# Altium footprint library Mini-Circuits.PcbLib: 45 footprints (part 2 of 3)
Each footprint in its own frame and in the unit in brackets; x right, y up, seen from the top. Pads: shape width x height; smd on the part's side, far side on the other; paste and mask are expansions set on the pad; w line width, h text height; cw(c..) or ccw(c..) is an arc to the next point about the centre after c.
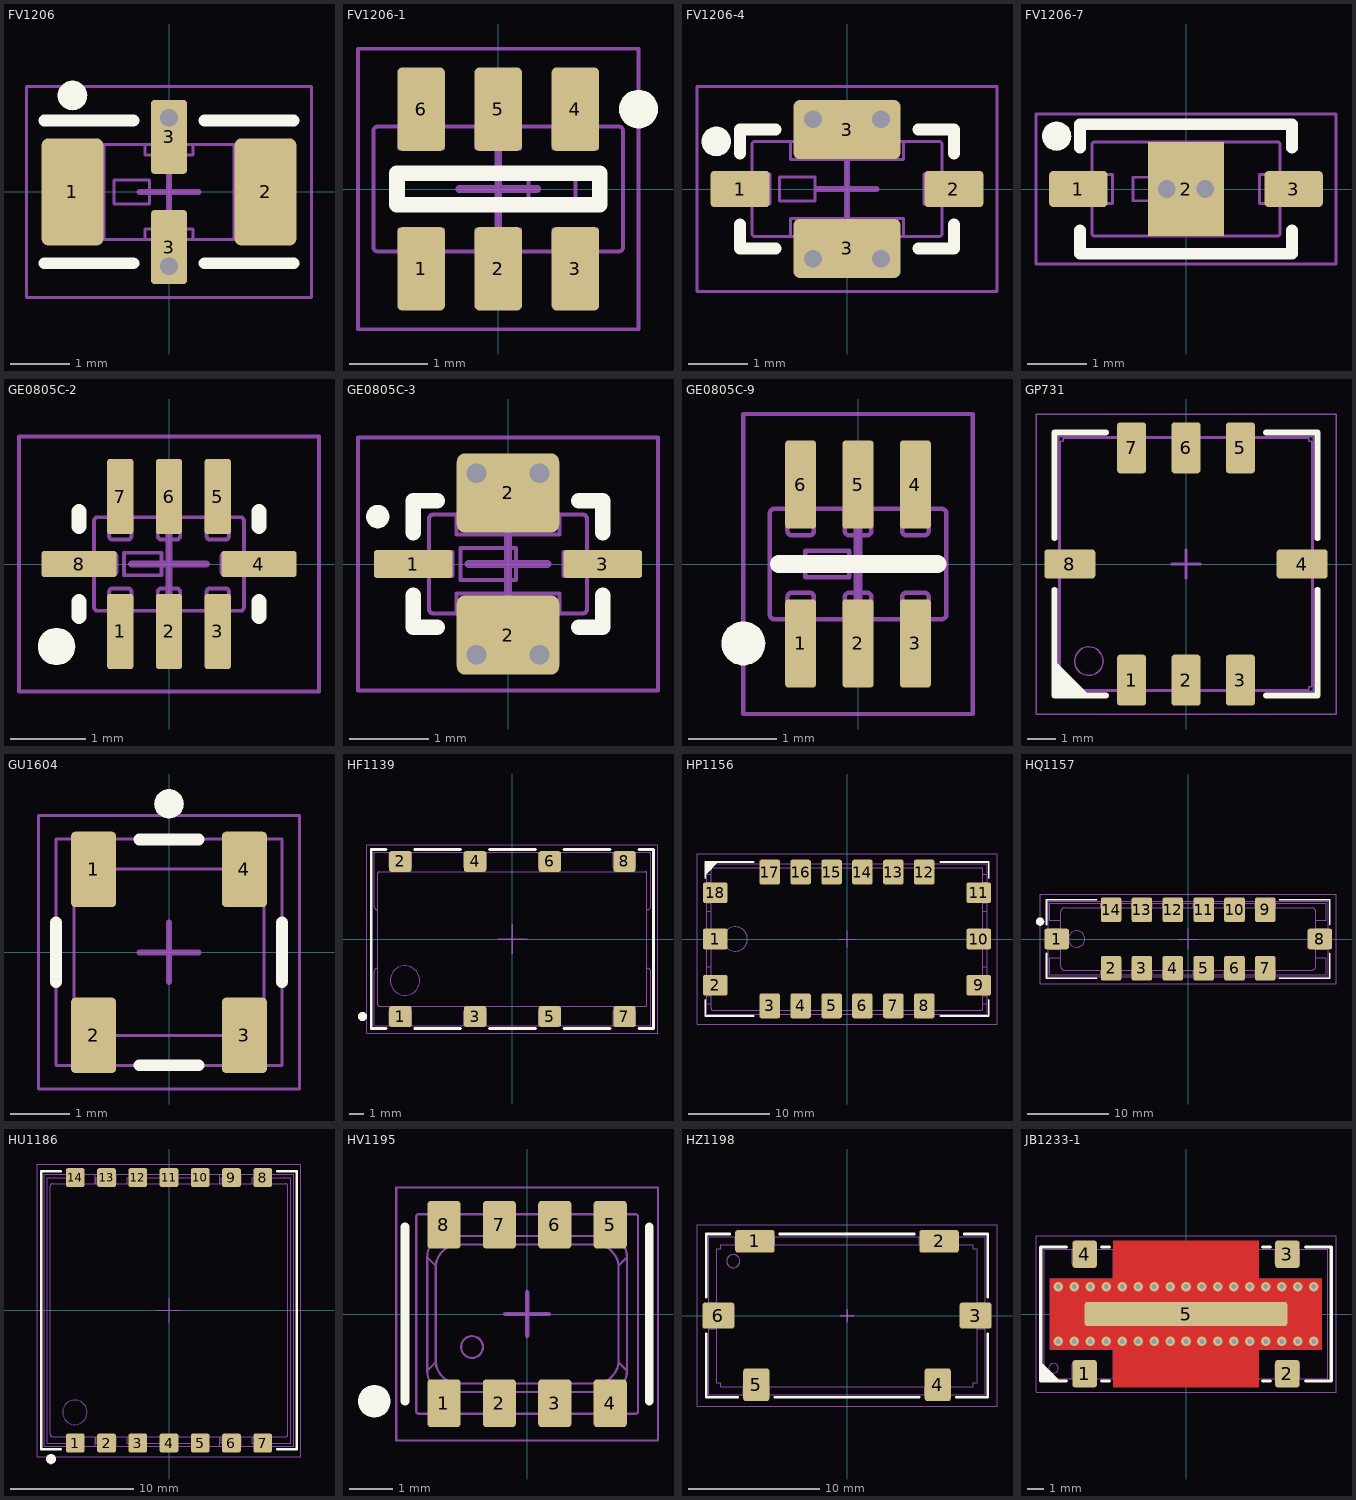
[diagram p1: the footprints below, top view; thin cyan lines are the x and y axes]

## FV1206 [mm] "Mini-Circuits FV1206 package, 3.20x1.60mm, 4-Leads"
height 0.94
pads (5):
  rrect20% 1.04x1.8 smd: 1(-1.625,0) 2(1.625,0)
  rrect20% 0.61x1.245 smd: 3(0,-0.927) 3(0,0.927)
  round 0.5 on Top Overlay: ""(-1.625,1.625)
via 0,1.25 diameter 0.6 hole 0.3
via 0,-1.25 diameter 0.6 hole 0.3
Top Overlay:
  lines w0.2: -2.1,-1.2 -0.6,-1.2 ; -2.1,1.2 -0.6,1.2 ; 0.6,-1.2 2.1,-1.2 ; 0.6,1.2 2.1,1.2
Mechanical 1:
  lines w0.05: -1.09,-0.8 -1.09,0.8 ; -0.405,-0.8 -0.405,-0.62 0.405,-0.62 0.405,-0.8 ; -0.405,0.8 -0.405,0.62 0.405,0.62 0.405,0.8 ; 1.09,-0.8 1.09,0.8 ; -1.6,-0.75 ccw(c-1.55,-0.75) -1.55,-0.8 1.55,-0.8 ccw(c1.55,-0.75) 1.6,-0.75 1.6,0.75 ccw(c1.55,0.75) 1.55,0.8 -1.55,0.8 ccw(c-1.55,0.75) -1.6,0.75 -1.6,-0.75 ; -0.925,-0.2 -0.925,0.2 -0.325,0.2 -0.325,-0.2 -0.925,-0.2
Mechanical 15:
  lines w0.05: -2.4,-1.775 -2.4,1.775 2.4,1.775 2.4,-1.775 -2.4,-1.775
  lines w0.1: -0.5,0 0.5,0 ; 0,-0.5 0,0.5
3D body "Filter_Mini-Circuits_FV1206.step": height 0.94, standoff 0, extent -1.6,-0.8 1.6,0.8

## FV1206-1 [mm] "Mini-Circuits FV1206-1 Package, 3.20x1.60mm, 6-Leads"
height 0.89
pads (7):
  rrect20% 0.61x1.07 smd: 1(-0.99,-1.025) 2(0,-1.025) 3(0.99,-1.025) 4(0.99,1.025) 5(0,1.025) 6(-0.99,1.025)
  round 0.5 on Top Overlay: ""(1.8,1.025)
Top Overlay:
  lines w0.2: -1.3,-0.2 -1.3,0.2 1.3,0.2 1.3,-0.2 -1.3,-0.2
Mechanical 1:
  lines w0.05: -1.27,-0.8 -1.27,-0.52 -0.71,-0.52 -0.71,-0.8 ; -1.27,0.8 -1.27,0.52 -0.71,0.52 -0.71,0.8 ; -0.28,-0.8 -0.28,-0.52 0.28,-0.52 0.28,-0.8 ; -0.28,0.8 -0.28,0.52 0.28,0.52 0.28,0.8 ; 0.71,-0.8 0.71,-0.52 1.27,-0.52 1.27,-0.8 ; 0.71,0.8 0.71,0.52 1.27,0.52 1.27,0.8 ; -1.6,-0.75 ccw(c-1.55,-0.75) -1.55,-0.8 1.55,-0.8 ccw(c1.55,-0.75) 1.6,-0.75 1.6,0.75 ccw(c1.55,0.75) 1.55,0.8 -1.55,0.8 ccw(c-1.55,0.75) -1.6,0.75 -1.6,-0.75 ; 0.39,-0.2 0.99,-0.2 0.99,0.2 0.39,0.2 0.39,-0.2
Mechanical 15:
  lines w0.05: -1.8,-1.8 -1.8,1.8 1.8,1.8 1.8,-1.8 -1.8,-1.8
  lines w0.1: -0.5,0 0.5,0 ; 0,-0.5 0,0.5
3D body "Filter_Mini-Circuits_FV1206-1.step": height 0.89, standoff 0, extent -1.6,-0.8 1.6,0.8

## FV1206-4 [mm] "Mini-Circuits FV1206-4 package, 3.20x1.60mm, 4-Leads"
height 0.89
pads (5):
  rrect20% 0.99x0.61 smd: 1(-1.8,0) 2(1.8,0)
  rrect20% 1.8x0.99 smd: 3(0,-1) 3(0,1)
  round 0.5 on Top Overlay: ""(-2.2,0.8)
via -0.575,1.175 diameter 0.6 hole 0.3
via 0.575,1.175 diameter 0.6 hole 0.3
via -0.575,-1.175 diameter 0.6 hole 0.3
via 0.575,-1.175 diameter 0.6 hole 0.3
Top Overlay:
  lines w0.2: -1.8,-0.6 -1.8,-1 -1.2,-1 ; -1.8,0.6 -1.8,1 -1.2,1 ; 1.2,-1 1.8,-1 1.8,-0.6 ; 1.2,1 1.8,1 1.8,0.6
Mechanical 1:
  lines w0.05: -1.6,-0.255 -1.3,-0.255 -1.3,0.255 -1.6,0.255 ; -0.955,-0.8 -0.955,-0.5 0.955,-0.5 0.955,-0.8 ; -0.955,0.8 -0.955,0.5 0.955,0.5 0.955,0.8 ; 1.6,-0.255 1.3,-0.255 1.3,0.255 1.6,0.255 ; -1.6,-0.75 ccw(c-1.55,-0.75) -1.55,-0.8 1.55,-0.8 ccw(c1.55,-0.75) 1.6,-0.75 1.6,0.75 ccw(c1.55,0.75) 1.55,0.8 -1.55,0.8 ccw(c-1.55,0.75) -1.6,0.75 -1.6,-0.75 ; -1.14,-0.2 -1.14,0.2 -0.54,0.2 -0.54,-0.2 -1.14,-0.2
Mechanical 15:
  lines w0.05: -2.525,-1.725 2.525,-1.725 2.525,1.725 -2.525,1.725 -2.525,-1.725
  lines w0.1: -0.5,0 0.5,0 ; 0,-0.5 0,0.5
3D body "Filter_Mini-Circuits_FV1206-4.step": height 0.94, standoff 0, extent -1.6,-0.8 1.6,0.8

## FV1206-7 [mm] "Mini-Circuits FV1206-7 package, 3.20x1.60mm, 3-Leads"
height 0.89
pads (4):
  rrect20% 0.99x0.61 smd: 1(-1.83,0) 3(1.83,0)
  rect 1.3x1.6 smd: 2(0,0)
  round 0.5 on Top Overlay: ""(-2.2,0.9)
via -0.325,0 diameter 0.6 hole 0.3
via 0.325,0 diameter 0.6 hole 0.3
Top Overlay:
  lines w0.2: -1.8,-0.7 -1.8,-1.1 1.8,-1.1 1.8,-0.7 ; -1.8,0.7 -1.8,1.1 1.8,1.1 1.8,0.7
Mechanical 1:
  lines w0.05: -1.6,-0.25 -1.25,-0.25 -1.25,0.25 -1.6,0.25 ; 1.6,-0.25 1.25,-0.25 1.25,0.25 1.6,0.25 ; -1.6,-0.75 ccw(c-1.55,-0.75) -1.55,-0.8 1.55,-0.8 ccw(c1.55,-0.75) 1.6,-0.75 1.6,0.75 ccw(c1.55,0.75) 1.55,0.8 -1.55,0.8 ccw(c-1.55,0.75) -1.6,0.75 -1.6,-0.75 ; -0.9,-0.2 -0.9,0.2 -0.3,0.2 -0.3,-0.2 -0.9,-0.2
Mechanical 15:
  lines w0.05: -2.55,-1.275 2.55,-1.275 2.55,1.275 -2.55,1.275 -2.55,-1.275
  lines w0.1: -0.5,0 0.5,0 ; 0,-0.5 0,0.5
3D body "Filter_Mini-Circuits_FV1206-7.step": height 1.3, standoff 0, extent -1.6,-0.8 1.6,0.8

## GE0805C-2 [mm] "Mini-Circuits GE0805C-2 Case, 2.00x1.25mm, 8-Leads"
height 0.95
pads (9):
  rrect20% 0.35x1 smd: 1(-0.65,-0.9) 2(0,-0.9) 3(0.65,-0.9) 5(0.65,0.9) 6(0,0.9) 7(-0.65,0.9)
  rrect20% 1x0.35 smd: 4(1.2,0) 8(-1.2,0)
  round 0.5 on Top Overlay: ""(-1.5,-1.1)
Top Overlay:
  lines w0.2: -1.2,-0.7 -1.2,-0.5 ; -1.2,0.5 -1.2,0.7 ; 1.2,-0.7 1.2,-0.5 ; 1.2,0.5 1.2,0.7
Mechanical 1:
  lines w0.05: -1,-0.15 -0.75,-0.15 ccw(c-0.75,-0.1) -0.7,-0.1 -0.7,0.1 ccw(c-0.75,0.1) -0.75,0.15 -1,0.15 ; -0.8,-0.625 -0.8,-0.375 cw(c-0.75,-0.375) -0.75,-0.325 -0.55,-0.325 cw(c-0.55,-0.375) -0.5,-0.375 -0.5,-0.625 ; -0.8,0.625 -0.8,0.375 ccw(c-0.75,0.375) -0.75,0.325 -0.55,0.325 ccw(c-0.55,0.375) -0.5,0.375 -0.5,0.625 ; -0.15,-0.625 -0.15,-0.375 cw(c-0.1,-0.375) -0.1,-0.325 0.1,-0.325 cw(c0.1,-0.375) 0.15,-0.375 0.15,-0.625 ; -0.15,0.625 -0.15,0.375 ccw(c-0.1,0.375) -0.1,0.325 0.1,0.325 ccw(c0.1,0.375) 0.15,0.375 0.15,0.625 ; 0.5,-0.625 0.5,-0.375 cw(c0.55,-0.375) 0.55,-0.325 0.75,-0.325 cw(c0.75,-0.375) 0.8,-0.375 0.8,-0.625 ; 0.5,0.625 0.5,0.375 ccw(c0.55,0.375) 0.55,0.325 0.75,0.325 ccw(c0.75,0.375) 0.8,0.375 0.8,0.625 ; 1,-0.15 0.75,-0.15 cw(c0.75,-0.1) 0.7,-0.1 0.7,0.1 cw(c0.75,0.1) 0.75,0.15 1,0.15 ; -1,-0.575 ccw(c-0.95,-0.575) -0.95,-0.625 0.95,-0.625 ccw(c0.95,-0.575) 1,-0.575 1,0.575 ccw(c0.95,0.575) 0.95,0.625 -0.95,0.625 ccw(c-0.95,0.575) -1,0.575 -1,-0.575 ; -0.6,-0.15 -0.1,-0.15 -0.1,0.15 -0.6,0.15 -0.6,-0.15
Mechanical 15:
  lines w0.05: -2,-1.7 2,-1.7 2,1.7 -2,1.7 -2,-1.7
  lines w0.1: -0.5,0 0.5,0 ; 0,-0.5 0,0.5
3D body "Mini-Circuits_GE0805C-2.STEP": height 0.95, standoff 0, extent -1,-0.625 1,0.625

## GE0805C-3 [mm] "Mini-Circuits GE0805C-3 Case, 2.00x1.25mm, 4-Leads"
pads (5):
  rrect20% 1x0.35 smd: 1(-1.2,0) 3(1.2,0)
  rrect20% 1.3x1 smd: 2(0,-0.9) 2(0,0.9)
  round 0.3 on Top Overlay: ""(-1.65,0.6)
via -0.4,1.15 diameter 0.5 hole 0.25
via 0.4,1.15 diameter 0.5 hole 0.25
via -0.4,-1.15 diameter 0.5 hole 0.25
via 0.4,-1.15 diameter 0.5 hole 0.25
Top Overlay:
  lines w0.2: -1.2,-0.4 -1.2,-0.8 -0.9,-0.8 ; -1.2,0.4 -1.2,0.8 -0.9,0.8 ; 0.9,-0.8 1.2,-0.8 1.2,-0.4 ; 0.9,0.8 1.2,0.8 1.2,0.4
Mechanical 1:
  lines w0.05: -1,-0.15 -0.7,-0.15 -0.7,0.15 -1,0.15 ; -0.65,-0.625 -0.65,-0.375 0.65,-0.375 0.65,-0.625 ; -0.65,0.625 -0.65,0.375 0.65,0.375 0.65,0.625 ; 1,-0.15 0.7,-0.15 0.7,0.15 1,0.15 ; -1,-0.575 ccw(c-0.95,-0.575) -0.95,-0.625 0.95,-0.625 ccw(c0.95,-0.575) 1,-0.575 1,0.575 ccw(c0.95,0.575) 0.95,0.625 -0.95,0.625 ccw(c-0.95,0.575) -1,0.575 -1,-0.575 ; -0.6,-0.2 -0.6,0.2 0.1,0.2 0.1,-0.2 -0.6,-0.2
Mechanical 15:
  lines w0.05: -1.9,-1.6 -1.9,1.6 1.9,1.6 1.9,-1.6 -1.9,-1.6
  lines w0.1: -0.5,0 0.5,0 ; 0,-0.5 0,0.5
3D body "Mini-Circuits_GE0805C-3.STEP": height 0.95, standoff 0, extent -1,-0.625 1,0.625

## GE0805C-9 [mm] "Mini-Circuits GE0805C-9 Case, 2.00x1.25mm, 6-Leads"
height 0.95
pads (7):
  rrect20% 0.35x1 smd: 1(-0.65,-0.9) 2(0,-0.9) 3(0.65,-0.9) 4(0.65,0.9) 5(0,0.9) 6(-0.65,0.9)
  round 0.5 on Top Overlay: ""(-1.3,-0.9)
Top Overlay:
  lines w0.2: -0.9,0 0.9,0
Mechanical 1:
  lines w0.05: -0.8,-0.625 -0.8,-0.375 cw(c-0.75,-0.375) -0.75,-0.325 -0.55,-0.325 cw(c-0.55,-0.375) -0.5,-0.375 -0.5,-0.625 ; -0.8,0.625 -0.8,0.375 ccw(c-0.75,0.375) -0.75,0.325 -0.55,0.325 ccw(c-0.55,0.375) -0.5,0.375 -0.5,0.625 ; -0.15,-0.625 -0.15,-0.375 cw(c-0.1,-0.375) -0.1,-0.325 0.1,-0.325 cw(c0.1,-0.375) 0.15,-0.375 0.15,-0.625 ; -0.15,0.625 -0.15,0.375 ccw(c-0.1,0.375) -0.1,0.325 0.1,0.325 ccw(c0.1,0.375) 0.15,0.375 0.15,0.625 ; 0.5,-0.625 0.5,-0.375 cw(c0.55,-0.375) 0.55,-0.325 0.75,-0.325 cw(c0.75,-0.375) 0.8,-0.375 0.8,-0.625 ; 0.5,0.625 0.5,0.375 ccw(c0.55,0.375) 0.55,0.325 0.75,0.325 ccw(c0.75,0.375) 0.8,0.375 0.8,0.625 ; -1,-0.575 ccw(c-0.95,-0.575) -0.95,-0.625 0.95,-0.625 ccw(c0.95,-0.575) 1,-0.575 1,0.575 ccw(c0.95,0.575) 0.95,0.625 -0.95,0.625 ccw(c-0.95,0.575) -1,0.575 -1,-0.575 ; -0.6,-0.15 -0.1,-0.15 -0.1,0.15 -0.6,0.15 -0.6,-0.15
Mechanical 15:
  lines w0.05: -1.3,-1.7 -1.3,1.7 1.3,1.7 1.3,-1.7 -1.3,-1.7
  lines w0.1: -0.5,0 0.5,0 ; 0,-0.5 0,0.5
3D body "Mini-Circuits_GE0805C-9.STEP": height 0.95, standoff 0, extent -1,-0.625 1,0.625

## GP731 [mil] "Mini-Circuts GP731 Package, 8.89x8.89mm, 8 Leads"
height 100
pads (8):
  rrect20% 40x70 smd: 1(-75,-160) 2(0,-160) 3(75,-160) 5(75,160) 6(0,160) 7(-75,160)
  rrect20% 70x40 smd: 4(160,0) 8(-160,0)
Top Overlay:
  region: -181.1,-137.8 -137.8,-181.1 -181.1,-181.1
  lines w7.87: -181.1,-137.8 -137.8,-181.1 ; -181.1,-35.43 -181.1,-181.1 -110.24,-181.1 ; -181.1,35.43 -181.1,181.1 -110.24,181.1 ; 110.24,-181.1 181.1,-181.1 181.1,-35.43 ; 110.24,181.1 181.1,181.1 181.1,35.43
Mechanical 1:
  circle w1.97: c-133.86,-133.86 r19.68
  lines w1.97: -173.23,-20.08 -175,-20.08 ; -173.23,-18.13 -175,-20.08 ; -173.23,18.13 -175,20.08 ; -173.23,20.08 -175,20.08 ; -95.28,-173.23 -95.28,-175 ; -95.28,173.23 -95.28,175 ; -93.33,-173.23 -95.28,-175 ; -93.33,173.23 -95.28,175 ; -57.06,-173.23 -55.12,-175 ; -57.06,173.23 -55.12,175 ; -55.12,-173.23 -55.12,-175 ; -55.12,173.23 -55.12,175 ; -20.08,-173.23 -20.08,-175 ; -20.08,173.23 -20.08,175 ; -18.13,-173.23 -20.08,-175 ; -18.13,173.23 -20.08,175 ; 18.13,-173.23 20.08,-175 ; 18.13,173.23 20.08,175 ; 20.08,-173.23 20.08,-175 ; 20.08,173.23 20.08,175 ; 55.12,-173.23 55.12,-175 ; 55.12,173.23 55.12,175 ; 57.06,-173.23 55.12,-175 ; 57.06,173.23 55.12,175 ; 93.33,-173.23 95.28,-175 ; 93.33,173.23 95.28,175 ; 95.28,-173.23 95.28,-175 ; 95.28,173.23 95.28,175 ; 173.23,-20.08 175,-20.08 ; 173.23,-18.13 175,-20.08 ; 173.23,18.13 175,20.08 ; 173.23,20.08 175,20.08 ; -175,-20.08 -175,-175 -95.28,-175 ; -175,20.08 -175,175 -95.28,175 ; -55.12,-175 -20.08,-175 ; -55.12,175 -20.08,175 ; 20.08,-175 55.12,-175 ; 20.08,175 55.12,175 ; 95.28,-175 175,-175 175,-20.08 ; 95.28,175 175,175 175,20.08 ; -173.23,-169.09 -173.23,169.09 -169.09,169.09 -169.09,173.23 169.09,173.23 169.09,169.09 173.23,169.09 173.23,-169.09 169.09,-169.09 169.09,-173.23 -169.09,-173.23 -169.09,-169.09 -173.23,-169.09
Mechanical 15:
  lines w1.97: -206.69,-206.69 206.69,-206.69 206.69,206.69 -206.69,206.69 -206.69,-206.69
  lines w3.94: -19.68,0 19.68,0 ; 0,-19.68 0,19.68
3D body "Mini-Circuits_GP731.STEP": height 100, standoff 0, extent -175,-175 175,175

## GU1604 [mil] "Mini-Circuits GU1604 Case, 3.00x3.00mm, 4-Leads"
height 118.11
pads (5):
  rrect20% 30x50 smd: 1(-50,55) 2(-50,-55) 3(50,-55) 4(50,55)
  round 19.68 on Top Overlay: ""(0,98.43)
Top Overlay:
  lines w7.87: -74.8,-19.68 -74.8,19.68 ; -19.68,-74.8 19.68,-74.8 ; -19.68,74.8 19.68,74.8 ; 74.8,-19.68 74.8,19.68
Mechanical 1:
  lines w1.97: -75,-75 75,-75 75,75 -75,75 -75,-75 ; -62.99,-55.12 62.99,-55.12 62.99,55.12 -62.99,55.12 -62.99,-55.12 ; -55.11,38.93 cw(c-47.33,39.37) -55.12,39.37 cw(c-47.34,39.37) -55.11,39.77 cw(c-47.26,39.37) -55.06,40.31 cw(c-47.19,39.36) -54.49,42.45 cw(c-47.31,39.4) -53.89,43.59 cw(c-47.21,39.34) -52.41,45.31 cw(c-47.29,39.43) -51.42,46.04 cw(c-47.22,39.32) -49.35,46.96 cw(c-47.26,39.44) -48.08,47.2 cw(c-47.24,39.32) -45.87,47.12 cw(c-47.23,39.44) -44.58,46.78 cw(c-47.27,39.32) -42.66,45.77 cw(c-47.19,39.44) -42.34,45.53 cw(c-47.19,39.44) -42,45.24 cw(c-47.25,39.38) -41.57,44.83 cw(c-47.28,39.34) -40.34,43.16 cw(c-47.16,39.41) -40.14,42.77 cw(c-47.17,39.41) -39.96,42.36 cw(c-47.25,39.38) -39.76,41.8 cw(c-47.3,39.36) -39.38,39.81 cw(c-47.16,39.37) -39.37,39.37 cw(c-47.16,39.37) -39.39,38.88 cw(c-47.25,39.38) -39.45,38.24 cw(c-47.29,39.38) -39.96,36.38 cw(c-47.17,39.33) -40.14,35.97 cw(c-47.16,39.33) -40.34,35.58 cw(c-47.24,39.37) -40.65,35.07 cw(c-47.28,39.4) -42,33.5 cw(c-47.19,39.3) -42.34,33.21 cw(c-47.19,39.3) -42.7,32.94 cw(c-47.24,39.37) -43.19,32.62 cw(c-47.27,39.42) -45.05,31.81 cw(c-47.23,39.29) -45.48,31.7 cw(c-47.22,39.28) -45.91,31.61 cw(c-47.24,39.37) -46.5,31.53 cw(c-47.24,39.42) -48.57,31.61 cw(c-47.26,39.28) -49.01,31.7 cw(c-47.26,39.29) -49.44,31.81 cw(c-47.24,39.37) -50,32 cw(c-47.22,39.42) -51.79,32.94 cw(c-47.3,39.3) -52.15,33.21 cw(c-47.3,39.3) -52.49,33.5 cw(c-47.24,39.36) -52.92,33.91 cw(c-47.2,39.4) -54.14,35.58 cw(c-47.33,39.33) -54.35,35.97 cw(c-47.32,39.33) -54.53,36.38 cw(c-47.24,39.36) -54.73,36.94 cw(c-47.19,39.38) -55.11,38.93
Mechanical 15:
  lines w1.97: -86.61,-90.55 86.61,-90.55 86.61,90.55 -86.61,90.55 -86.61,-90.55
  lines w3.94: -19.68,0 19.68,0 ; 0,-19.68 0,19.68
3D body "Mini-Circuits_GU1604.STEP": height 150, standoff 0, extent -75,-75 75,75

## HF1139 [mil] "Mini-Circuts HF1139 Package, 18.80x11.18mm, 8 Leads"
height 270.08
pads (8):
  rrect20% 60x55 smd: 1(-300,-207.5) 2(-300,207.5) 3(-100,-207.5) 4(-100,207.5) 5(100,-207.5) 6(100,207.5) 7(300,-207.5) 8(300,207.5)
Top Overlay:
  region: -401.57,-195.69 -402.5,-195.69 -404.34,-195.98 -406.11,-196.55 -407.76,-197.4 -409.27,-198.49 -410.58,-199.81 -411.68,-201.31 -412.52,-202.97 -413.09,-204.73 -413.39,-206.57 -413.39,-208.43 -413.09,-210.27 -412.52,-212.03 -411.68,-213.69 -410.58,-215.19 -409.27,-216.51 -407.76,-217.6 -406.11,-218.45 -404.34,-219.02 -402.5,-219.31 -401.57,-219.31 -400.64,-219.31 -398.81,-219.02 -397.04,-218.45 -395.38,-217.6 -393.88,-216.51 -392.57,-215.19 -391.47,-213.69 -390.63,-212.03 -390.05,-210.27 -389.76,-208.43 -389.76,-206.57 -390.05,-204.73 -390.63,-202.97 -391.47,-201.31 -392.57,-199.81 -393.88,-198.49 -395.38,-197.4 -397.04,-196.55 -398.81,-195.98 -400.64,-195.69
  lines w7.87: -338.58,-240.16 -377.95,-240.16 -377.95,240.16 -338.58,240.16 ; -261.42,-240.16 -138.58,-240.16 ; -261.42,240.16 -138.58,240.16 ; -61.42,-240.16 61.42,-240.16 ; -61.42,240.16 61.42,240.16 ; 138.58,-240.16 261.42,-240.16 ; 138.58,240.16 261.42,240.16 ; 338.58,-240.16 377.95,-240.16 377.95,240.16 338.58,240.16
Mechanical 1:
  circle w1.97: c-287.4,-111.22 r39.37
  lines w1.97: -360.24,-78.74 -362.2,-78.74 ; -360.24,78.74 -362.2,78.74 -362.24,78.74 ; -329.92,-232.28 -329.92,-192.13 -270.08,-192.13 -270.08,-232.28 ; -329.92,232.28 -329.92,192.13 -270.08,192.13 -270.08,232.28 ; -129.92,-232.28 -129.92,-192.13 -70.08,-192.13 -70.08,-232.28 ; -129.92,232.28 -129.92,192.13 -70.08,192.13 -70.08,232.28 ; 70.08,-232.28 70.08,-192.13 129.92,-192.13 129.92,-232.28 ; 70.08,232.28 70.08,192.13 129.92,192.13 129.92,232.28 ; 270.08,-232.28 270.08,-192.13 329.92,-192.13 329.92,-232.28 ; 270.08,232.28 270.08,192.13 329.92,192.13 329.92,232.28 ; 360.24,-78.74 362.2,-78.74 362.24,-78.74 ; 360.24,78.74 362.2,78.74 ; -364.17,-78.99 ccw(c-362.2,-86.61) -370.08,-86.61 -370.08,-232.28 -325.59,-232.28 cw(c-300,-232.28) -274.41,-232.28 -125.59,-232.28 cw(c-100,-232.28) -74.41,-232.28 74.41,-232.28 cw(c100,-232.28) 125.59,-232.28 274.41,-232.28 cw(c300,-232.28) 325.59,-232.28 370.08,-232.28 370.08,-86.61 ccw(c362.2,-86.61) 364.17,-78.99 364.12,-78.98 364.05,-78.96 ccw(c362.19,-86.69) 363.55,-78.86 363.46,-78.84 363.39,-78.83 363.33,-78.82 363.32,-78.82 ; -364.13,-78.98 -364.08,-78.97 -364.03,-78.96 -363.98,-78.94 -363.91,-78.93 -363.83,-78.91 -363.72,-78.89 cw(c-362.17,-86.8) -363.32,-78.82 -363.25,-78.81 -363.19,-78.8 -363.14,-78.8 -363.09,-78.79 -363.05,-78.79 -363.01,-78.78 ; -364.17,-78.99 -364.13,-78.98 ; -363.32,78.82 -363.33,78.82 -363.39,78.83 -363.46,78.84 -363.55,78.86 cw(c-362.19,86.69) -364.05,78.96 -364.12,78.98 -364.17,78.99 cw(c-362.2,86.61) -370.08,86.61 -370.08,232.28 -325.59,232.28 ccw(c-300,232.28) -274.41,232.28 -125.59,232.28 ccw(c-100,232.28) -74.41,232.28 74.41,232.28 ccw(c100,232.28) 125.59,232.28 274.41,232.28 ccw(c300,232.28) 325.59,232.28 370.08,232.28 370.08,86.61 cw(c362.2,86.61) 364.17,78.99 ; -363.32,78.82 -363.28,78.81 ; -363.28,78.81 -363.23,78.81 -363.17,78.8 -363.11,78.79 -363.03,78.78 ccw(c-362.19,86.79) -362.57,78.75 -362.48,78.75 -362.41,78.74 -362.36,78.74 -362.31,78.74 -362.27,78.74 ; -362.99,-78.78 -362.92,-78.77 -362.84,-78.77 -362.72,-78.76 cw(c-362.2,-86.69) -362.35,-78.74 -362.28,-78.74 -362.22,-78.74 ; -363.01,-78.78 -362.99,-78.78 ; -362.27,78.74 -362.24,78.74 ; -362.22,-78.74 -362.2,-78.74 ; 362.2,78.74 362.22,78.74 ; 362.22,78.74 362.28,78.74 362.35,78.74 ccw(c362.2,86.69) 362.72,78.76 362.84,78.77 362.92,78.77 362.99,78.78 ; 362.27,-78.74 362.31,-78.74 362.36,-78.74 362.41,-78.74 362.48,-78.75 362.57,-78.75 cw(c362.19,-86.79) 363.03,-78.78 363.11,-78.79 363.17,-78.8 363.23,-78.81 363.28,-78.81 ; 362.24,-78.74 362.27,-78.74 ; 362.99,78.78 363.01,78.78 ; 363.01,78.78 363.05,78.79 363.09,78.79 363.14,78.8 363.19,78.8 363.25,78.81 363.32,78.82 ccw(c362.17,86.8) 363.72,78.89 363.83,78.91 363.91,78.93 363.98,78.94 364.03,78.96 364.08,78.97 364.13,78.98 ; 363.28,-78.81 363.32,-78.82 ; 364.13,78.98 364.17,78.99 ; -360.24,-176.18 ccw(c-356.3,-176.18) -356.3,-180.12 356.3,-180.12 ccw(c356.3,-176.18) 360.24,-176.18 360.24,176.18 ccw(c356.3,176.18) 356.3,180.12 -356.3,180.12 ccw(c-356.3,176.18) -360.24,176.18 -360.24,-176.18
Mechanical 15:
  lines w1.97: -389.76,-251.97 389.76,-251.97 389.76,251.97 -389.76,251.97 -389.76,-251.97
  lines w3.94: -39.37,0 39.37,0 ; 0,-39.37 0,39.37
3D body "Mini-Circuits_HF1139.STEP": height 270.08, standoff 0, extent -370.08,-232.28 370.08,232.28

## HP1156 [mm] "Mini-Circuts HP1156 Package, 34.54x18.54mm, 18 Leads"
height 8.89
pads (18):
  rrect20% 3.05x2.54 smd: 1(-16.255,0) 2(-16.255,-5.715) 9(16.255,-5.715) 10(16.255,0) 11(16.255,5.715) 18(-16.255,5.715)
  rrect20% 2.54x3.05 smd: 3(-9.525,-8.255) 4(-5.715,-8.255) 5(-1.905,-8.255) 6(1.905,-8.255) 7(5.715,-8.255) 8(9.525,-8.255) 12(9.525,8.255) 13(5.715,8.255) 14(1.905,8.255) 15(-1.905,8.255) 16(-5.715,8.255) 17(-9.525,8.255)
Top Overlay:
  region: -17.5,9.5 -17.5,8 -16,9.5
  lines w0.2: -17.5,-7.5 -17.5,-9.5 -11.5,-9.5 ; -17.5,7.5 -17.5,9.5 -11.5,9.5 ; -17.5,8 -16,9.5 ; 11.5,-9.5 17.5,-9.5 17.5,-7.5 ; 11.5,9.5 17.5,9.5 17.5,7.5
Mechanical 1:
  circle w0.05: c-13.772,0 r1.5
  lines w0.05: -17.272,-8.001 -16.772,-8.001 ; -17.272,-6.985 -16.772,-6.985 ; -17.272,-4.445 -16.772,-4.445 ; -17.272,-3.429 -16.772,-3.429 ; -17.272,3.429 -16.772,3.429 ; -17.272,4.445 -16.772,4.445 ; -17.272,6.985 -16.772,6.985 ; -17.272,8.001 -16.772,8.001 ; 16.772,-8.001 17.272,-8.001 ; 16.772,-6.985 17.272,-6.985 ; 16.772,-4.445 17.272,-4.445 ; 16.772,-3.429 17.272,-3.429 ; 16.772,3.429 17.272,3.429 ; 16.772,4.445 17.272,4.445 ; 16.772,6.985 17.272,6.985 ; 16.772,8.001 17.272,8.001 ; -17.272,-9.271 -9.925,-9.271 cw(c-9.525,-9.271) -9.125,-9.271 -6.115,-9.271 cw(c-5.715,-9.271) -5.315,-9.271 -2.305,-9.271 cw(c-1.905,-9.271) -1.505,-9.271 1.505,-9.271 cw(c1.905,-9.271) 2.305,-9.271 5.315,-9.271 cw(c5.715,-9.271) 6.115,-9.271 9.125,-9.271 cw(c9.525,-9.271) 9.925,-9.271 17.272,-9.271 17.272,-6.115 cw(c17.272,-5.715) 17.272,-5.315 17.272,-0.4 cw(c17.272,0) 17.272,0.4 17.272,5.315 cw(c17.272,5.715) 17.272,6.115 17.272,9.271 9.925,9.271 cw(c9.525,9.271) 9.125,9.271 6.115,9.271 cw(c5.715,9.271) 5.315,9.271 2.305,9.271 cw(c1.905,9.271) 1.505,9.271 -1.505,9.271 cw(c-1.905,9.271) -2.305,9.271 -5.315,9.271 cw(c-5.715,9.271) -6.115,9.271 -9.125,9.271 cw(c-9.525,9.271) -9.925,9.271 -17.272,9.271 -17.272,6.115 cw(c-17.272,5.715) -17.272,5.315 -17.272,0.4 cw(c-17.272,0) -17.272,-0.4 -17.272,-5.315 cw(c-17.272,-5.715) -17.272,-6.115 -17.272,-9.271 ; -16.772,-8.571 ccw(c-16.572,-8.571) -16.572,-8.771 16.572,-8.771 ccw(c16.572,-8.571) 16.772,-8.571 16.772,8.571 ccw(c16.572,8.571) 16.572,8.771 -16.572,8.771 ccw(c-16.572,8.571) -16.772,8.571 -16.772,-8.571
Mechanical 15:
  lines w0.05: -18.5,-10.5 18.5,-10.5 18.5,10.5 -18.5,10.5 -18.5,-10.5
  lines w0.1: -1,0 1,0 ; 0,-1 0,1
3D body "Mini-Circuits_HP1156.STEP": height 8.86, standoff 0, extent -17.272,-9.271 17.272,9.271

## HQ1157 [mil] "Mini-Curcuits HQ1157 Case, 34.54x9.27mm, 14 Leads"
height 350
pads (14):
  rrect20% 120x100 smd: 1(-640,0) 8(640,0)
  rrect20% 100x120 smd: 2(-375,-142) 3(-225,-142) 4(-75,-142) 5(75,-142) 6(225,-142) 7(375,-142) 9(375,142) 10(225,142) 11(75,142) 12(-75,142) 13(-225,142) 14(-375,142)
Top Overlay:
  region: -720.47,104.33 -723.06,104.33 -728.07,102.99 -732.56,100.4 -736.22,96.73 -738.82,92.24 -740.16,87.24 -740.16,82.05 -738.82,77.05 -736.22,72.56 -732.56,68.89 -728.07,66.3 -723.06,64.96 -720.47,64.96 -717.88,64.96 -712.87,66.3 -708.39,68.89 -704.72,72.56 -702.13,77.05 -700.79,82.05 -700.79,87.24 -702.13,92.24 -704.72,96.73 -708.39,100.4 -712.87,102.99 -717.88,104.33
  lines w7.87: -688.98,-68.9 -688.98,-190.98 -443.9,-190.98 ; -688.98,68.9 -688.98,190.98 -443.9,190.98 ; 443.9,-190.98 688.98,-190.98 688.98,-68.9 ; 443.9,190.98 688.98,190.98 688.98,68.9
Mechanical 1:
  circle w1.97: c-542.2,0 r39.37
  lines w1.97: -672.13,-23.73 -672.13,-50 -620.94,-50 ; -672.13,23.73 -672.13,50 -620.94,50 ; -620.94,-90 -672.13,-90 -672.13,-174.63 -398.73,-174.63 ; -620.94,90 -672.13,90 -672.13,174.63 -398.73,174.63 ; -425,-174.63 -425,-151 ; -425,151 -425,174.63 ; -351.27,-174.63 -248.73,-174.63 ; -351.27,174.63 -248.73,174.63 ; -325,-174.63 -325,-151 ; -325,151 -325,174.63 ; -275,-174.63 -275,-151 ; -275,151 -275,174.63 ; -201.27,-174.63 -98.73,-174.63 ; -201.27,174.63 -98.73,174.63 ; -175,-174.63 -175,-151 ; -175,151 -175,174.63 ; -125,-174.63 -125,-151 ; -125,151 -125,174.63 ; -51.27,-174.63 51.27,-174.63 ; -51.27,174.63 51.27,174.63 ; -25,-174.63 -25,-151 ; -25,151 -25,174.63 ; 25,-174.63 25,-151 ; 25,151 25,174.63 ; 98.73,-174.63 201.27,-174.63 ; 98.73,174.63 201.27,174.63 ; 125,-174.63 125,-151 ; 125,151 125,174.63 ; 175,-174.63 175,-151 ; 175,151 175,174.63 ; 248.73,-174.63 351.27,-174.63 ; 248.73,174.63 351.27,174.63 ; 275,-174.63 275,-151 ; 275,151 275,174.63 ; 325,-174.63 325,-151 ; 325,151 325,174.63 ; 398.73,-174.63 672.13,-174.63 672.13,-90 620.94,-90 ; 398.73,174.63 672.13,174.63 672.13,90 620.94,90 ; 425,-174.63 425,-151 ; 425,151 425,174.63 ; 620.94,-50 672.13,-50 672.13,-23.73 ; 620.94,50 672.13,50 672.13,23.73 ; -680,-182.5 -400,-182.5 cw(c-375,-182.5) -350,-182.5 -250,-182.5 cw(c-225,-182.5) -200,-182.5 -100,-182.5 cw(c-75,-182.5) -50,-182.5 50,-182.5 cw(c75,-182.5) 100,-182.5 200,-182.5 cw(c225,-182.5) 250,-182.5 350,-182.5 cw(c375,-182.5) 400,-182.5 680,-182.5 680,-25 cw(c680,0) 680,25 680,182.5 400,182.5 cw(c375,182.5) 350,182.5 250,182.5 cw(c225,182.5) 200,182.5 100,182.5 cw(c75,182.5) 50,182.5 -50,182.5 cw(c-75,182.5) -100,182.5 -200,182.5 cw(c-225,182.5) -250,182.5 -350,182.5 cw(c-375,182.5) -400,182.5 -680,182.5 -680,25 cw(c-680,0) -680,-25 -680,-182.5 ; -620.94,-131.32 ccw(c-601.26,-131.32) -601.26,-151 601.26,-151 ccw(c601.26,-131.32) 620.94,-131.32 620.94,131.32 ccw(c601.26,131.32) 601.26,151 -601.26,151 ccw(c-601.26,131.32) -620.94,131.32 -620.94,-131.32
Mechanical 15:
  lines w1.97: -718.5,-216.54 718.5,-216.54 718.5,216.54 -718.5,216.54 -718.5,-216.54
  lines w3.94: -49.21,0 49.21,0 ; 0,-49.21 0,49.21
3D body "Mini-Circuits_HQ1157.STEP": height 350, standoff 0, extent -680,-182.5 680,182.5

## HU1186 [mil] "Mini-Circuits HU1168  Package, 22.10x20.32mm, 14-Lead"
height 250
pads (14):
  rrect20% 60x60 smd: 1(-300,-425) 2(-200,-425) 3(-100,-425) 4(0,-425) 5(100,-425) 6(200,-425) 7(300,-425) 8(300,425) 9(200,425) 10(100,425) 11(0,425) 12(-100,425) 13(-200,425) 14(-300,425)
Top Overlay:
  region: -393.7,-476.38 -393.7,-477.93 -393.1,-480.97 -391.91,-483.84 -390.19,-486.42 -387.99,-488.61 -385.41,-490.33 -382.55,-491.52 -379.5,-492.13 -377.95,-492.13 -376.4,-492.13 -373.36,-491.52 -370.49,-490.33 -367.91,-488.61 -365.72,-486.42 -364,-483.84 -362.81,-480.97 -362.2,-477.93 -362.2,-476.38 -362.2,-474.83 -362.81,-471.78 -364,-468.92 -365.72,-466.34 -367.91,-464.15 -370.49,-462.42 -373.36,-461.24 -376.4,-460.63 -377.95,-460.63 -379.5,-460.63 -382.55,-461.24 -385.41,-462.42 -387.99,-464.15 -390.19,-466.34 -391.91,-468.92 -393.1,-471.78 -393.7,-474.83
  lines w7.87: -346.46,-444.88 -409.45,-444.88 -409.45,444.88 -346.46,444.88 ; 346.46,-444.88 409.45,-444.88 409.45,444.88 346.46,444.88
Mechanical 1:
  circle w1.97: c-301.57,-326.73 r39.37
  lines w1.97: -320.05,-425.16 -390.16,-425.16 -390.16,425.16 -320.05,425.16 ; -285.95,-425.16 -273,-425.16 -273,-405.47 ; -285.95,425.16 -273,425.16 -273,405.47 ; -236.94,-435 -236.94,-405.47 ; -236.94,405.47 -236.94,435 ; -233,-405.47 -233,-425.16 -220.05,-425.16 ; -233,405.47 -233,425.16 -220.05,425.16 ; -185.95,-425.16 -173,-425.16 -173,-405.47 ; -185.95,425.16 -173,425.16 -173,405.47 ; -169.06,-435 -169.06,-405.47 ; -169.06,405.47 -169.06,435 ; -133,-405.47 -133,-425.16 -120.05,-425.16 ; -133,405.47 -133,425.16 -120.05,425.16 ; -85.95,-425.16 -20.05,-425.16 ; -85.95,425.16 -20.05,425.16 ; 14.05,-425.16 79.95,-425.16 ; 14.05,425.16 79.95,425.16 ; 114.05,-425.16 127,-425.16 127,-405.47 ; 114.05,425.16 127,425.16 127,405.47 ; 163.06,-435 163.06,-405.47 ; 163.06,405.47 163.06,435 ; 167,-405.47 167,-425.16 179.95,-425.16 ; 167,405.47 167,425.16 179.95,425.16 ; 214.05,-425.16 227,-425.16 227,-405.47 ; 214.05,425.16 227,425.16 227,405.47 ; 230.94,-435 230.94,-405.47 ; 230.94,405.47 230.94,435 ; 267,-405.47 267,-425.16 279.95,-425.16 ; 267,405.47 267,425.16 279.95,425.16 ; 314.05,-425.16 390.16,-425.16 390.16,425.16 314.05,425.16 ; -400,-435 -322.69,-435 cw(c-303,-435) -283.31,-435 -222.69,-435 cw(c-203,-435) -183.31,-435 -122.69,-435 cw(c-103,-435) -83.31,-435 -22.68,-435 cw(c-3,-435) 16.68,-435 77.31,-435 cw(c97,-435) 116.69,-435 177.31,-435 cw(c197,-435) 216.69,-435 277.31,-435 cw(c297,-435) 316.69,-435 400,-435 400,435 316.69,435 cw(c297,435) 277.31,435 216.69,435 cw(c197,435) 177.31,435 116.69,435 cw(c97,435) 77.31,435 16.68,435 cw(c-3,435) -22.68,435 -83.31,435 cw(c-103,435) -122.69,435 -183.31,435 cw(c-203,435) -222.69,435 -283.31,435 cw(c-303,435) -322.69,435 -400,435 -400,-435 ; -380.31,-397.6 ccw(c-372.44,-397.6) -372.44,-405.47 372.44,-405.47 ccw(c372.44,-397.6) 380.31,-397.6 380.31,397.6 ccw(c372.44,397.6) 372.44,405.47 -372.44,405.47 ccw(c-372.44,397.6) -380.31,397.6 -380.31,-397.6
Mechanical 15:
  lines w1.97: -421.26,-468.5 -421.26,468.5 421.26,468.5 421.26,-468.5 -421.26,-468.5
  lines w3.94: -39.37,0 39.37,0 ; 0,-39.37 0,39.37
3D body "Mini-Circuits_HU1186.STEP": height 250, standoff 0, extent -400,-435 400,435

## HV1195 [mm] "Mini-Circuits HV1195 Case. 5.08x4.57mm, 8 Leads"
height 2.21
pads (9):
  rrect20% 0.76x1.09 smd mask+0.1: 1(-1.905,-2.045) 2(-0.635,-2.045) 3(0.635,-2.045) 4(1.905,-2.045) 5(1.905,2.045) 6(0.635,2.045) 7(-0.635,2.045) 8(-1.905,2.045)
  round 0.75 on Top Overlay: ""(-3.5,-2)
Top Overlay:
  lines w0.2: -2.8,-2 -2.8,2 ; 2.8,-2 2.8,2
Mechanical 1:
  circle w0.05: c-1.262,-0.757 r0.25
  lines w0.05: -2.29,-1.302 ccw(c-1.812,-1.307) -1.807,-1.785 ; -2.29,-1.302 -2.095,-1.107 ; -2.29,-1.302 -2.29,1.302 ; -2.29,1.302 cw(c-1.812,1.307) -1.807,1.785 ; -2.29,1.302 -2.095,1.107 ; -2.095,-1.107 ccw(c-1.572,-1.067) -1.612,-1.59 ; -2.095,-1.107 -2.095,1.107 ; -2.095,1.107 cw(c-1.572,1.067) -1.612,1.59 ; -1.807,-1.785 -1.612,-1.59 ; -1.807,-1.785 1.807,-1.785 ; -1.807,1.785 -1.612,1.59 ; -1.807,1.785 1.807,1.785 ; -1.612,-1.59 1.612,-1.59 ; -1.612,1.59 1.612,1.59 ; 1.612,-1.59 ccw(c1.572,-1.067) 2.095,-1.107 ; 1.612,-1.59 1.807,-1.785 ; 1.612,1.59 cw(c1.572,1.067) 2.095,1.107 ; 1.612,1.59 1.807,1.785 ; 1.807,-1.785 ccw(c1.812,-1.307) 2.29,-1.302 ; 1.807,1.785 cw(c1.812,1.307) 2.29,1.302 ; 2.095,-1.107 2.095,1.107 ; 2.095,-1.107 2.29,-1.302 ; 2.095,1.107 2.29,1.302 ; 2.29,-1.302 2.29,1.302 ; -2.54,-2.235 ccw(c-2.49,-2.235) -2.49,-2.285 2.49,-2.285 ccw(c2.49,-2.235) 2.54,-2.235 2.54,2.235 ccw(c2.49,2.235) 2.49,2.285 -2.49,2.285 ccw(c-2.49,2.235) -2.54,2.235 -2.54,-2.235
Mechanical 15:
  lines w0.05: -3,-2.9 -3,2.9 3,2.9 3,-2.9 -3,-2.9
  lines w0.1: -0.5,0 0.5,0 ; 0,-0.5 0,0.5
3D body "Mini-Circuits_HV1195.STEP": height 2.21, standoff 0, extent -2.54,-2.285 2.54,2.285

## HZ1198 [mil] "Mini-Circuits HZ1198 Package, 11.99x20.98mm, 6-Leads"
height 220.08
pads (6):
  rrect20% 118x67 smd: 1(-275.59,222.41) 2(275.59,222.41)
  rrect20% 96x78 smd: 3(385.07,0) 6(-385.07,0)
  rrect20% 78x98 smd: 4(271.46,-206.91) 5(-271.46,-206.91)
Top Overlay:
  lines w7.87: -421.26,-55.12 -421.26,-244.09 -326.77,-244.09 ; -421.26,55.12 -421.26,244.09 -350.39,244.09 ; -216.54,-244.09 216.54,-244.09 ; -200.79,244.09 200.79,244.09 ; 326.77,-244.09 421.26,-244.09 421.26,-55.12 ; 350.39,244.09 421.26,244.09 421.26,55.12
Mechanical 1:
  drawing of 176 lines, arcs and shapes, not listed
Mechanical 15:
  lines w1.97: -448.82,-271.65 448.82,-271.65 448.82,271.65 -448.82,271.65 -448.82,-271.65
  lines w3.94: -19.68,0 19.68,0 ; 0,-19.68 0,19.68
3D body "Mini-Circuits_HZ1198.STEP": height 220.08, standoff 0, extent -413,-236 413,236

## JB1233-1 [mil] "Mini-Circuits JB1233-1 Package, 17.78x8.13mm Package, 4-Leads with Exposed Pad"
height 140.16
pads (5):
  rrect20% 60x67 smd: 1(-250,-147.5) 2(250,-147.5) 3(250,147.5) 4(-250,147.5)
  rrect20% 500x60 smd: 5(0,0)
via 314.96,67.5 diameter 23.62 hole 11.81
via 275.59,67.5 diameter 23.62 hole 11.81
via 236.22,67.5 diameter 23.62 hole 11.81
via 196.85,67.5 diameter 23.62 hole 11.81
via 157.48,67.5 diameter 23.62 hole 11.81
via 118.11,67.5 diameter 23.62 hole 11.81
via 78.74,67.5 diameter 23.62 hole 11.81
via -314.96,67.5 diameter 23.62 hole 11.81
via -275.59,67.5 diameter 23.62 hole 11.81
via -236.22,67.5 diameter 23.62 hole 11.81
via -196.85,67.5 diameter 23.62 hole 11.81
via -157.48,67.5 diameter 23.62 hole 11.81
via -118.11,67.5 diameter 23.62 hole 11.81
via -78.74,67.5 diameter 23.62 hole 11.81
via -39.37,67.5 diameter 23.62 hole 11.81
via 39.37,67.5 diameter 23.62 hole 11.81
via 0,67.5 diameter 23.62 hole 11.81
via 314.96,-67.5 diameter 23.62 hole 11.81
via 275.59,-67.5 diameter 23.62 hole 11.81
via 236.22,-67.5 diameter 23.62 hole 11.81
via 196.85,-67.5 diameter 23.62 hole 11.81
via 157.48,-67.5 diameter 23.62 hole 11.81
via 118.11,-67.5 diameter 23.62 hole 11.81
via 78.74,-67.5 diameter 23.62 hole 11.81
via -314.96,-67.5 diameter 23.62 hole 11.81
via -275.59,-67.5 diameter 23.62 hole 11.81
via -236.22,-67.5 diameter 23.62 hole 11.81
via -196.85,-67.5 diameter 23.62 hole 11.81
via -157.48,-67.5 diameter 23.62 hole 11.81
via -118.11,-67.5 diameter 23.62 hole 11.81
via -78.74,-67.5 diameter 23.62 hole 11.81
via -39.37,-67.5 diameter 23.62 hole 11.81
via 39.37,-67.5 diameter 23.62 hole 11.81
via 0,-67.5 diameter 23.62 hole 11.81
Top Layer:
  region: -335,-87.5 -335,87.5 -180,87.5 -180,181 180,181 180,87.5 335,87.5 335,-87.5 180,-87.5 180,-181 -180,-181 -180,-87.5
Top Overlay:
  region: -358.27,-122.05 -358.27,-165.35 -314.96,-165.35
  lines w7.87: -358.27,-122.05 -314.96,-165.35 ; -295.28,-165.35 -358.27,-165.35 -358.27,165.35 -295.28,165.35 ; -208.66,-165.35 -188.98,-165.35 ; -208.66,165.35 -188.98,165.35 ; 188.98,-165.35 208.66,-165.35 ; 188.98,165.35 208.66,165.35 ; 295.28,-165.35 358.27,-165.35 358.27,165.35 295.28,165.35
Top Solder:
  region: -335,-47.5 335,-47.5 335,47.5 -335,47.5
  region: -180,87.5 180,87.5 180,181 -180,181
  region: -180,-181 180,-181 180,-87.5 -180,-87.5
Mechanical 1:
  circle w1.97: c-326.77,-133.86 r11.81
  lines w1.97: -280.39,-160 -280.39,-123.94 cw(c-276.46,-123.94) -276.46,-120 -224.33,-120 cw(c-224.33,-123.94) -220.39,-123.94 -220.39,-160 ; -280.39,160 -280.39,123.94 ccw(c-276.46,123.94) -276.46,120 -224.33,120 ccw(c-224.33,123.94) -220.39,123.94 -220.39,160 ; -180,-160 -180,-87.5 -335,-87.5 -335,87.5 -180,87.5 -180,160 ; 180,-160 180,-87.5 335,-87.5 335,87.5 180,87.5 180,160 ; 220.39,-160 220.39,-123.94 cw(c224.33,-123.94) 224.33,-120 276.46,-120 cw(c276.46,-123.94) 280.39,-123.94 280.39,-160 ; 220.39,160 220.39,123.94 ccw(c224.33,123.94) 224.33,120 276.46,120 ccw(c276.46,123.94) 280.39,123.94 280.39,160 ; -350,-160 -276.26,-160 cw(c-250.39,-160) -224.52,-160 -151.07,-160 cw(c-125.2,-160) -99.33,-160 -25.87,-160 cw(c0,-160) 25.87,-160 99.33,-160 cw(c125.2,-160) 151.07,-160 224.52,-160 cw(c250.39,-160) 276.26,-160 350,-160 350,160 276.26,160 cw(c250.39,160) 224.52,160 151.07,160 cw(c125.2,160) 99.33,160 25.87,160 cw(c0,160) -25.87,160 -99.33,160 cw(c-125.2,160) -151.07,160 -224.52,160 cw(c-250.39,160) -276.26,160 -350,160 -350,-160
Mechanical 15:
  lines w1.97: -370.08,-192.91 370.08,-192.91 370.08,192.91 -370.08,192.91 -370.08,-192.91
  lines w3.94: -19.68,0 19.68,0 ; 0,-19.68 0,19.68
3D body "Mini-Circuits_JB1233-1.STEP": height 140.16, standoff 0, extent -350,-160 350,160